# Altium footprint library BluetoothTracking.PcbLib: 39 footprints (part 3 of 3)
Each footprint in its own frame and in the unit in brackets; x right, y up, seen from the top. Pads: shape width x height; smd on the part's side, far side on the other; paste and mask are expansions set on the pad; w line width, h text height; cw(c..) or ccw(c..) is an arc to the next point about the centre after c.
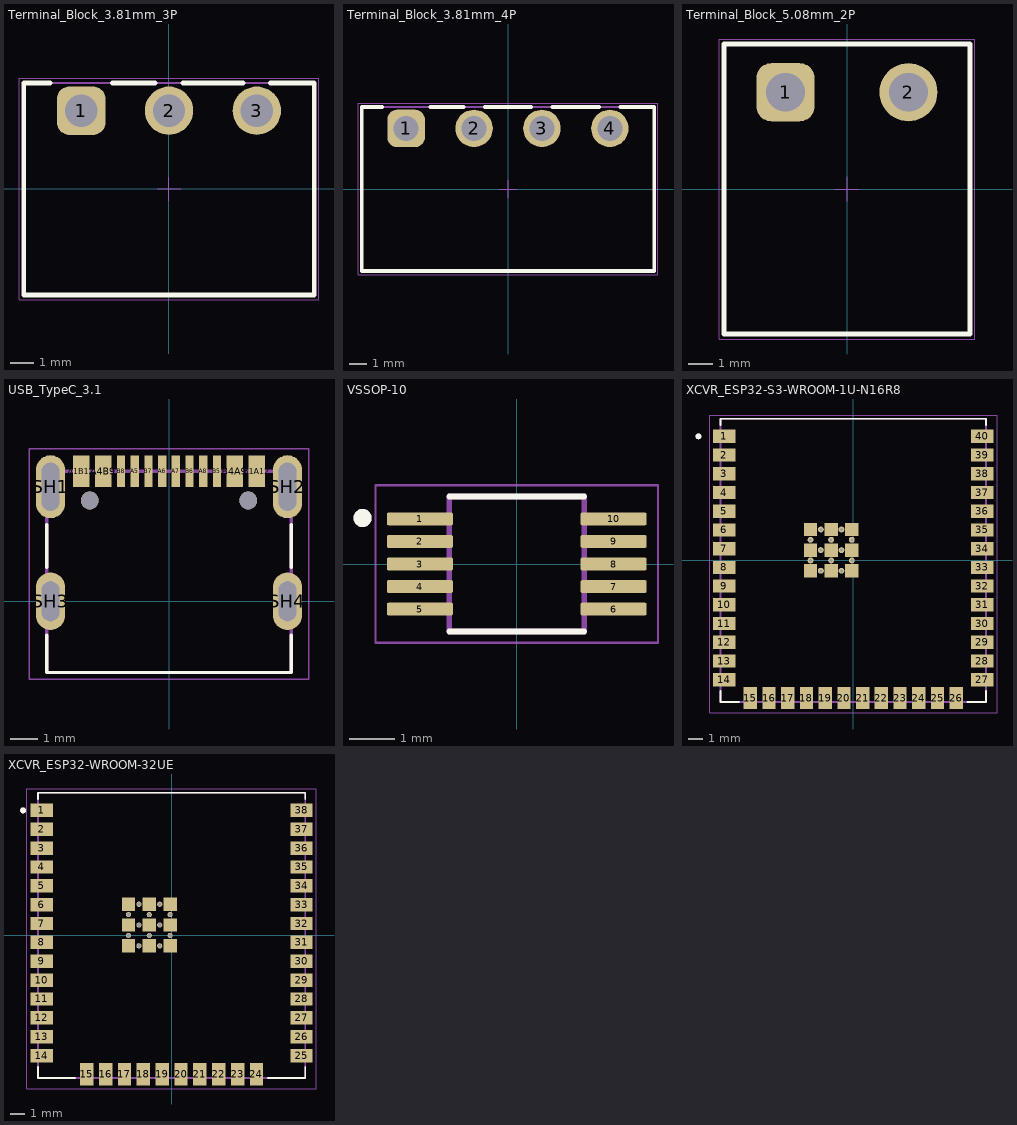
[diagram p2: the footprints below, top view; thin cyan lines are the x and y axes]

## Terminal_Block_3.81mm_3P [mm] "Horizontal PCB Header, pitch 3.81mm, 03p"
height 7
pads (3):
  rrect50% 2.1x2.1 hole 1.4: 1(-3.81,3.4)
  round 2.1 hole 1.4: 2(0,3.4) 3(3.81,3.4)
Top Overlay:
  lines w0.2: -5.16,4.6 -6.31,4.6 -6.31,-4.6 6.31,-4.6 6.31,4.6 4.4,4.6 ; -2.46,4.6 -0.59,4.6 ; 0.59,4.6 3.22,4.6
Top 3D Body:
  lines w0.1: -6.31,-4.6 -6.31,4.6 6.31,4.6 6.31,-4.6 -6.31,-4.6
Top Courtyard:
  lines w0.05: -6.51,-4.8 6.51,-4.8 6.51,4.8 -6.51,4.8 -6.51,-4.8
Top Designator:
  text ".Designator" at -7.498,-0.5 h1.5
Top Component Outline:
  lines w0.1: -6.31,-4.6 6.31,-4.6 6.31,4.6 -6.31,4.6 -6.31,-4.6
Top Component Center:
  lines w0.05: -0.5,0 0.5,0 ; 0,-0.5 0,0.5
3D body "691322310003.stp": height 7.25, standoff -3.45, extent -6.31,-4.6 6.31,4.6

## Terminal_Block_3.81mm_4P [mm] "Horizontal PCB Header, pitch 3.81mm, 04p"
height 7
pads (4):
  rrect50% 2.1x2.1 hole 1.4: 1(-5.715,3.4)
  round 2.1 hole 1.4: 2(-1.905,3.4) 3(1.905,3.4) 4(5.715,3.4)
Top Overlay:
  lines w0.2: -7.065,4.6 -8.215,4.6 -8.215,-4.6 8.215,-4.6 8.215,4.6 6.305,4.6 ; -4.365,4.6 -2.495,4.6 ; -1.315,4.6 1.315,4.6 ; 2.495,4.6 5.125,4.6
Top 3D Body:
  lines w0.1: -8.215,-4.6 -8.215,4.6 8.215,4.6 8.215,-4.6 -8.215,-4.6
Top Courtyard:
  lines w0.05: -8.415,-4.8 8.415,-4.8 8.415,4.8 -8.415,4.8 -8.415,-4.8
Top Designator:
  text ".Designator" at -7.498,-0.5 h1.5
Top Component Outline:
  lines w0.1: -8.215,-4.6 8.215,-4.6 8.215,4.6 -8.215,4.6 -8.215,-4.6
Top Component Center:
  lines w0.05: -0.5,0 0.5,0 ; 0,-0.5 0,0.5
3D body "691322310004.stp": height 7.25, standoff -3.45, extent -8.215,-4.6 8.215,4.6

## Terminal_Block_5.08mm_2P [mm] "5,08mm - PCB Headers - Horizontal - Opened ends - 02p"
height 8.5
pads (2):
  rrect50% 2.4x2.4 hole 1.6: 1(-2.54,4)
  round 2.4 hole 1.6: 2(2.54,4)
Top Overlay:
  lines w0.2: -5.08,-6 5.08,-6 5.08,6 -5.08,6 -5.08,-6
Top 3D Body:
  lines w0.1: -5.08,-6 5.08,-6 5.08,6 -5.08,6 -5.08,-6
Top Courtyard:
  lines w0.05: -5.28,-6.2 5.28,-6.2 5.28,6.2 -5.28,6.2 -5.28,-6.2
Top Designator:
  text ".Designator" at -7.498,-0.5 h1.5
Top Component Outline:
  lines w0.1: -5.08,-6 -5.08,6 5.08,6 5.08,-6 -5.08,-6
Top Component Center:
  lines w0.05: -0.5,0 0.5,0 ; 0,-0.5 0,0.5
3D body "691312510002.stp": height 8.55, standoff -3.45, extent -5.08,-6 5.08,6

## USB_TypeC_3.1 [mm] "Usb Type C 3.1 16pins"
height 3.37
pads (18):
  rect 0.6x1.15 smd: A1B12(-3.2,4.745) A4B9(-2.4,4.745) B1A12(3.2,4.745) B4A9(2.4,4.745)
  rect 0.3x1.15 smd: A5(-1.25,4.745) A6(-0.25,4.745) A7(0.25,4.745) A8(1.25,4.745) B5(1.75,4.745) B6(0.75,4.745) B7(-0.75,4.745) B8(-1.75,4.745)
  oval 1.05x2.3 hole 0.65 slot 1.75 at 90 deg: SH1(-4.325,4.18) SH2(4.325,4.18)
  oval 1.05x2.1 hole 0.65 slot 1.45 at 90 deg: SH3(-4.325,0) SH4(4.325,0)
  round 0.65 hole 0.65 unplated: ""(-2.89,3.68) ""(2.89,3.68)
Top Overlay:
  lines w0.127: -4.47,-1.245 -4.47,-2.6 4.47,-2.6 4.47,-1.245 ; -4.47,1.245 -4.47,2.785 ; 4.47,1.245 4.47,2.785
Mechanical 13:
  lines w0.127: -4.47,-2.6 4.47,-2.6 4.47,4.75 -4.47,4.75 -4.47,-2.6
Mechanical 15:
  lines w0.05: -5.095,-2.85 -5.095,5.57 5.095,5.57 5.095,-2.85 -5.095,-2.85
3D body "step_temp.STEP": height 3.26, standoff -0.9, extent -4.47,-2.6 4.47,4.998

## VSSOP-10 [mm]
pads (10):
  rrect25% 1.47x0.28 smd: 1(-2.15,1) 2(-2.15,0.5) 3(-2.15,0) 4(-2.15,-0.5) 5(-2.15,-1) 6(2.15,-1) 7(2.15,-0.5) 8(2.15,0) 9(2.15,0.5) 10(2.15,1)
Top Overlay:
  circle w0.2: c-3.424,1.021 r0.1
  lines w0.127: -1.5,-1.5 1.5,-1.5 ; -1.5,1.5 1.5,1.5
Mechanical 13:
  circle w0.2: c-3.424,1.021 r0.1
  lines w0.127: -1.5,-1.5 -1.5,1.5 1.5,1.5 1.5,-1.5 -1.5,-1.5
Mechanical 15:
  lines w0.05: -3.135,-1.75 -3.135,1.75 3.135,1.75 3.135,-1.75 -3.135,-1.75
3D body "step_temp.STEP": height 1.1, standoff 0, extent -2.45,-1.5 2.45,1.5

## XCVR_ESP32-S3-WROOM-1U-N16R8 [mm]
height 3.35
pads (61):
  rect 1.5x0.9 smd: 1(-8.75,8.41) 2(-8.75,7.14) 3(-8.75,5.87) 4(-8.75,4.6) 5(-8.75,3.33) 6(-8.75,2.06) 7(-8.75,0.79) 8(-8.75,-0.48) 9(-8.75,-1.75) 10(-8.75,-3.02) 11(-8.75,-4.29) 12(-8.75,-5.56) 13(-8.75,-6.83) 14(-8.75,-8.1) 27(8.75,-8.1) 28(8.75,-6.83) 29(8.75,-5.56) 30(8.75,-4.29) 31(8.75,-3.02) 32(8.75,-1.75) 33(8.75,-0.48) 34(8.75,0.79) 35(8.75,2.06) 36(8.75,3.33) 37(8.75,4.6) 38(8.75,5.87) 39(8.75,7.14) 40(8.75,8.41)
  rect 0.9x1.5 smd: 15(-6.985,-9.35) 16(-5.715,-9.35) 17(-4.445,-9.35) 18(-3.175,-9.35) 19(-1.905,-9.35) 20(-0.635,-9.35) 21(0.635,-9.35) 22(1.905,-9.35) 23(3.175,-9.35) 24(4.445,-9.35) 25(5.715,-9.35) 26(6.985,-9.35)
  rect 0.9x0.9 smd: 41_1(-2.9,2.09) 41_2(-1.5,2.09) 41_3(-0.1,2.09) 41_4(-2.9,0.69) 41_5(-1.5,0.69) 41_6(-0.1,0.69) 41_7(-2.9,-0.71) 41_8(-1.5,-0.71) 41_9(-0.1,-0.71)
  round 0.4 hole 0.2 mask+0: 41_10(-2.2,2.09) 41_11(-0.8,2.09) 41_12(-2.9,1.39) 41_13(-1.5,1.39) 41_14(-0.1,1.39) 41_15(-2.2,0.69) 41_16(-0.8,0.69) 41_17(-2.9,-0.01) 41_18(-1.5,-0.01) 41_19(-0.1,-0.01) 41_20(-2.2,-0.71) 41_21(-0.8,-0.71)
Top Overlay:
  circle w0.2: c-10.5,8.41 r0.1
  lines w0.127: -9,-8.87 -9,-9.6 -7.755,-9.6 ; -9,9.18 -9,9.6 9,9.6 9,9.18 ; 7.755,-9.6 9,-9.6 9,-8.87
Mechanical 13:
  circle w0.2: c-10.5,8.41 r0.1
  lines w0.127: -9,-9.6 -9,9.6 9,9.6 9,-9.6 -9,-9.6
Mechanical 15:
  lines w0.05: -9.75,-10.35 9.75,-10.35 9.75,9.85 -9.75,9.85 -9.75,-10.35
3D body "step_temp.STEP": height 3.35, standoff 0, extent -9,-9.6 9,9.6

## XCVR_ESP32-WROOM-32UE [mm]
height 3.25
pads (59):
  rect 1.5x0.9 smd: 1(-8.75,8.41) 2(-8.75,7.14) 3(-8.75,5.87) 4(-8.75,4.6) 5(-8.75,3.33) 6(-8.75,2.06) 7(-8.75,0.79) 8(-8.75,-0.48) 9(-8.75,-1.75) 10(-8.75,-3.02) 11(-8.75,-4.29) 12(-8.75,-5.56) 13(-8.75,-6.83) 14(-8.75,-8.1) 25(8.75,-8.1) 26(8.75,-6.83) 27(8.75,-5.56) 28(8.75,-4.29) 29(8.75,-3.02) 30(8.75,-1.75) 31(8.75,-0.48) 32(8.75,0.79) 33(8.75,2.06) 34(8.75,3.33) 35(8.75,4.6) 36(8.75,5.87) 37(8.75,7.14) 38(8.75,8.41)
  rect 0.9x1.5 smd: 15(-5.715,-9.35) 16(-4.445,-9.35) 17(-3.175,-9.35) 18(-1.905,-9.35) 19(-0.635,-9.35) 20(0.635,-9.35) 21(1.905,-9.35) 22(3.175,-9.35) 23(4.445,-9.35) 24(5.715,-9.35)
  rect 0.9x0.9 smd: 39_1(-2.9,2.09) 39_2(-1.5,2.09) 39_3(-0.1,2.09) 39_4(-2.9,0.69) 39_5(-1.5,0.69) 39_6(-0.1,0.69) 39_7(-2.9,-0.71) 39_8(-1.5,-0.71) 39_9(-0.1,-0.71)
  round 0.35 hole 0.25 mask+0: 40_1(-2.2,2.09) 40_2(-0.8,2.09) 40_3(-2.9,1.39) 40_4(-1.5,1.39) 40_5(-0.1,1.39) 40_6(-2.2,0.69) 40_7(-0.8,0.69) 40_8(-2.9,-0.01) 40_9(-1.5,-0.01) 40_10(-0.1,-0.01) 40_11(-2.2,-0.71) 40_12(-0.8,-0.71)
Top Overlay:
  circle w0.2: c-10,8.41 r0.1
  lines w0.127: -9,-8.87 -9,-9.6 -6.485,-9.6 ; -9,9.18 -9,9.6 9,9.6 9,9.18 ; 6.485,-9.6 9,-9.6 9,-8.87
Mechanical 13:
  circle w0.2: c-10,8.41 r0.1
  lines w0.127: -9,-9.6 9,-9.6 9,9.6 -9,9.6 -9,-9.6
Mechanical 15:
  lines w0.05: -9.75,-10.35 9.75,-10.35 9.75,9.85 -9.75,9.85 -9.75,-10.35
3D body "step_temp.STEP": height 3.35, standoff 0, extent -9,-9.6 9,9.6